# EAGLE library part RFM69 (library homemade-hardware)
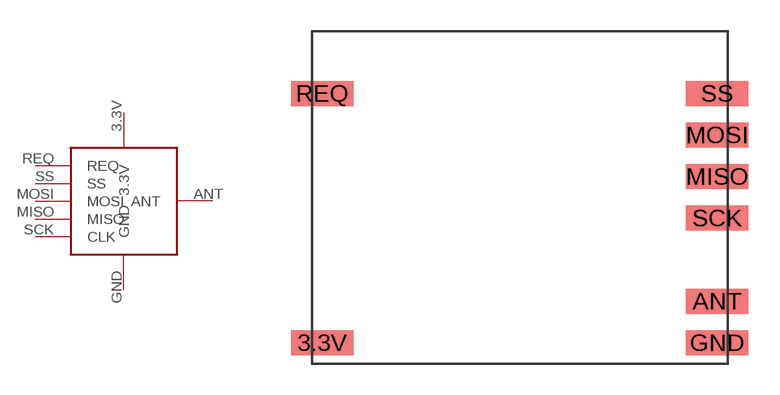
[diagram p1: symbol with the pads of S0C-RFM69; footprint S0C-RFM69]

Designator prefix -

## RFM69  [S0C-RFM69]
3.3V  3.3V
ANT  ANT
GND  GND
MISO  MISO
MOSI  MOSI
REQ  REQ
SCK  CLK
SS  SS

## Footprint S0C-RFM69 (pad centres in mm)
smd 3 x 1.2: 3.3V -9.5,-7; ANT 9.5,-5; GND 9.5,-7; MISO 9.5,1; MOSI 9.5,3; REQ -9.5,5; SCK 9.5,-1; SS 9.5,5